# Altium footprint library MODULE_SM-K26-XCL2GI.PcbLib: 1 footprints
Each footprint in its own frame and in the unit in brackets; x right, y up, seen from the top. Pads: shape width x height; smd on the part's side, far side on the other; paste and mask are expansions set on the pad; w line width, h text height; cw(c..) or ccw(c..) is an arc to the next point about the centre after c.
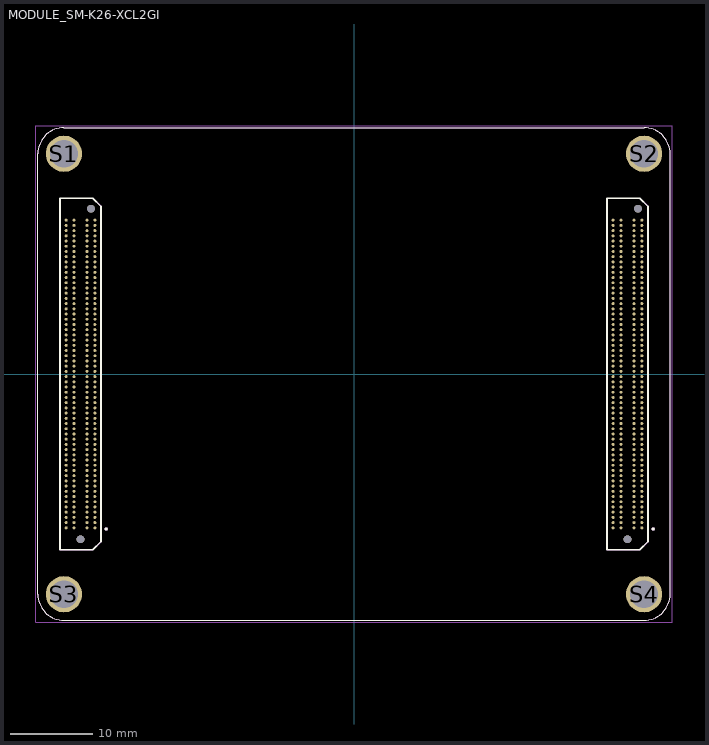
[diagram p0: the footprint, top view; thin cyan lines are the x and y axes]

## MODULE_SM-K26-XCL2GI [mil]
height 429.13
pads (488):
  round 14.02 smd: A01(-1242.36,-737.5) A02(-1242.36,-712.5) A03(-1242.36,-687.5) A04(-1242.36,-662.5) A05(-1242.36,-637.5) A06(-1242.36,-612.5) A07(-1242.36,-587.5) A08(-1242.36,-562.5) A09(-1242.36,-537.5) A10(-1242.36,-512.5) A11(-1242.36,-487.5) A12(-1242.36,-462.5) A13(-1242.36,-437.5) A14(-1242.36,-412.5) A15(-1242.36,-387.5) A16(-1242.36,-362.5) A17(-1242.36,-337.5) A18(-1242.36,-312.5) A19(-1242.36,-287.5) A20(-1242.36,-262.5) A21(-1242.36,-237.5) A22(-1242.36,-212.5) A23(-1242.36,-187.5) A24(-1242.36,-162.5) A25(-1242.36,-137.5) A26(-1242.36,-112.5) A27(-1242.36,-87.5) A28(-1242.36,-62.5) A29(-1242.36,-37.5) A30(-1242.36,-12.5) A31(-1242.36,12.5) A32(-1242.36,37.5) A33(-1242.36,62.5) A34(-1242.36,87.5) A35(-1242.36,112.5) A36(-1242.36,137.5) A37(-1242.36,162.5) A38(-1242.36,187.5) A39(-1242.36,212.5) A40(-1242.36,237.5) A41(-1242.36,262.5) A42(-1242.36,287.5) A43(-1242.36,312.5) A44(-1242.36,337.5) A45(-1242.36,362.5) A46(-1242.36,387.5) A47(-1242.36,412.5) A48(-1242.36,437.5) A49(-1242.36,462.5) A50(-1242.36,487.5) A51(-1242.36,512.5) A52(-1242.36,537.5) A53(-1242.36,562.5) A54(-1242.36,587.5) A55(-1242.36,612.5) A56(-1242.36,637.5) A57(-1242.36,662.5) A58(-1242.36,687.5) A59(-1242.36,712.5) A60(-1242.36,737.5) A101(1380.16,-737.5) A102(1380.16,-712.5) A103(1380.16,-687.5) A104(1380.16,-662.5) A105(1380.16,-637.5) A106(1380.16,-612.5) A107(1380.16,-587.5) A108(1380.16,-562.5) A109(1380.16,-537.5) A110(1380.16,-512.5) A111(1380.16,-487.5) A112(1380.16,-462.5) A113(1380.16,-437.5) A114(1380.16,-412.5) A115(1380.16,-387.5) A116(1380.16,-362.5) A117(1380.16,-337.5) A118(1380.16,-312.5) A119(1380.16,-287.5) A120(1380.16,-262.5) A121(1380.16,-237.5) A122(1380.16,-212.5) A123(1380.16,-187.5) A124(1380.16,-162.5) A125(1380.16,-137.5) A126(1380.16,-112.5) A127(1380.16,-87.5) A128(1380.16,-62.5) A129(1380.16,-37.5) A130(1380.16,-12.5) A131(1380.16,12.5) A132(1380.16,37.5) A133(1380.16,62.5) A134(1380.16,87.5) A135(1380.16,112.5) A136(1380.16,137.5) A137(1380.16,162.5) A138(1380.16,187.5) A139(1380.16,212.5) A140(1380.16,237.5) A141(1380.16,262.5) A142(1380.16,287.5) A143(1380.16,312.5) A144(1380.16,337.5) A145(1380.16,362.5) A146(1380.16,387.5) A147(1380.16,412.5) A148(1380.16,437.5) A149(1380.16,462.5) A150(1380.16,487.5) A151(1380.16,512.5) A152(1380.16,537.5) A153(1380.16,562.5) A154(1380.16,587.5) A155(1380.16,612.5) A156(1380.16,637.5) A157(1380.16,662.5) A158(1380.16,687.5) A159(1380.16,712.5) A160(1380.16,737.5) B01(-1280.16,-737.5) B02(-1280.16,-712.5) B03(-1280.16,-687.5) B04(-1280.16,-662.5) B05(-1280.16,-637.5) B06(-1280.16,-612.5) B07(-1280.16,-587.5) B08(-1280.16,-562.5) B09(-1280.16,-537.5) B10(-1280.16,-512.5) B11(-1280.16,-487.5) B12(-1280.16,-462.5) B13(-1280.16,-437.5) B14(-1280.16,-412.5) B15(-1280.16,-387.5) B16(-1280.16,-362.5) B17(-1280.16,-337.5) B18(-1280.16,-312.5) B19(-1280.16,-287.5) B20(-1280.16,-262.5) B21(-1280.16,-237.5) B22(-1280.16,-212.5) B23(-1280.16,-187.5) B24(-1280.16,-162.5) B25(-1280.16,-137.5) B26(-1280.16,-112.5) B27(-1280.16,-87.5) B28(-1280.16,-62.5) B29(-1280.16,-37.5) B30(-1280.16,-12.5) B31(-1280.16,12.5) B32(-1280.16,37.5) B33(-1280.16,62.5) B34(-1280.16,87.5) B35(-1280.16,112.5) B36(-1280.16,137.5) B37(-1280.16,162.5) B38(-1280.16,187.5) B39(-1280.16,212.5) B40(-1280.16,237.5) B41(-1280.16,262.5) B42(-1280.16,287.5) B43(-1280.16,312.5) B44(-1280.16,337.5) B45(-1280.16,362.5) B46(-1280.16,387.5) B47(-1280.16,412.5) B48(-1280.16,437.5) B49(-1280.16,462.5) B50(-1280.16,487.5) B51(-1280.16,512.5) B52(-1280.16,537.5) B53(-1280.16,562.5) B54(-1280.16,587.5) B55(-1280.16,612.5) B56(-1280.16,637.5) B57(-1280.16,662.5) B58(-1280.16,687.5) B59(-1280.16,712.5) B60(-1280.16,737.5) B101(1342.36,-737.5) B102(1342.36,-712.5) B103(1342.36,-687.5) B104(1342.36,-662.5) B105(1342.36,-637.5) B106(1342.36,-612.5) B107(1342.36,-587.5) B108(1342.36,-562.5) B109(1342.36,-537.5) B110(1342.36,-512.5) B111(1342.36,-487.5) B112(1342.36,-462.5) B113(1342.36,-437.5) B114(1342.36,-412.5) B115(1342.36,-387.5) B116(1342.36,-362.5) B117(1342.36,-337.5) B118(1342.36,-312.5) B119(1342.36,-287.5) B120(1342.36,-262.5) B121(1342.36,-237.5) B122(1342.36,-212.5) B123(1342.36,-187.5) B124(1342.36,-162.5) B125(1342.36,-137.5) B126(1342.36,-112.5) B127(1342.36,-87.5) B128(1342.36,-62.5) B129(1342.36,-37.5) B130(1342.36,-12.5) B131(1342.36,12.5) B132(1342.36,37.5) B133(1342.36,62.5) B134(1342.36,87.5) B135(1342.36,112.5) B136(1342.36,137.5) B137(1342.36,162.5) B138(1342.36,187.5) B139(1342.36,212.5) B140(1342.36,237.5) B141(1342.36,262.5) B142(1342.36,287.5) B143(1342.36,312.5) B144(1342.36,337.5) B145(1342.36,362.5) B146(1342.36,387.5) B147(1342.36,412.5) B148(1342.36,437.5) B149(1342.36,462.5) B150(1342.36,487.5) B151(1342.36,512.5) B152(1342.36,537.5) B153(1342.36,562.5) B154(1342.36,587.5) B155(1342.36,612.5) B156(1342.36,637.5) B157(1342.36,662.5) B158(1342.36,687.5) B159(1342.36,712.5) B160(1342.36,737.5) C01(-1342.36,-737.5) C02(-1342.36,-712.5) C03(-1342.36,-687.5) C04(-1342.36,-662.5) C05(-1342.36,-637.5) C06(-1342.36,-612.5) C07(-1342.36,-587.5) C08(-1342.36,-562.5) C09(-1342.36,-537.5) C10(-1342.36,-512.5) C11(-1342.36,-487.5) C12(-1342.36,-462.5) C13(-1342.36,-437.5) C14(-1342.36,-412.5) C15(-1342.36,-387.5) C16(-1342.36,-362.5) C17(-1342.36,-337.5) C18(-1342.36,-312.5) C19(-1342.36,-287.5) C20(-1342.36,-262.5) C21(-1342.36,-237.5) C22(-1342.36,-212.5) C23(-1342.36,-187.5) C24(-1342.36,-162.5) C25(-1342.36,-137.5) C26(-1342.36,-112.5) C27(-1342.36,-87.5) C28(-1342.36,-62.5) C29(-1342.36,-37.5) C30(-1342.36,-12.5) C31(-1342.36,12.5) C32(-1342.36,37.5) C33(-1342.36,62.5) C34(-1342.36,87.5) C35(-1342.36,112.5) C36(-1342.36,137.5) C37(-1342.36,162.5) C38(-1342.36,187.5) C39(-1342.36,212.5) C40(-1342.36,237.5) C41(-1342.36,262.5) C42(-1342.36,287.5) C43(-1342.36,312.5) C44(-1342.36,337.5) C45(-1342.36,362.5) C46(-1342.36,387.5) C47(-1342.36,412.5) C48(-1342.36,437.5) C49(-1342.36,462.5) C50(-1342.36,487.5) C51(-1342.36,512.5) C52(-1342.36,537.5) C53(-1342.36,562.5) C54(-1342.36,587.5) C55(-1342.36,612.5) C56(-1342.36,637.5) C57(-1342.36,662.5) C58(-1342.36,687.5) C59(-1342.36,712.5) C60(-1342.36,737.5) C101(1280.16,-737.5) C102(1280.16,-712.5) C103(1280.16,-687.5) C104(1280.16,-662.5) C105(1280.16,-637.5) C106(1280.16,-612.5) C107(1280.16,-587.5) C108(1280.16,-562.5) C109(1280.16,-537.5) C110(1280.16,-512.5) C111(1280.16,-487.5) C112(1280.16,-462.5) C113(1280.16,-437.5) C114(1280.16,-412.5) C115(1280.16,-387.5) C116(1280.16,-362.5) C117(1280.16,-337.5) C118(1280.16,-312.5) C119(1280.16,-287.5) C120(1280.16,-262.5) C121(1280.16,-237.5) C122(1280.16,-212.5) C123(1280.16,-187.5) C124(1280.16,-162.5) C125(1280.16,-137.5) C126(1280.16,-112.5) C127(1280.16,-87.5) C128(1280.16,-62.5) C129(1280.16,-37.5) C130(1280.16,-12.5) C131(1280.16,12.5) C132(1280.16,37.5) C133(1280.16,62.5) C134(1280.16,87.5) C135(1280.16,112.5) C136(1280.16,137.5) C137(1280.16,162.5) C138(1280.16,187.5) C139(1280.16,212.5) C140(1280.16,237.5) C141(1280.16,262.5) C142(1280.16,287.5) C143(1280.16,312.5) C144(1280.16,337.5) C145(1280.16,362.5) C146(1280.16,387.5) C147(1280.16,412.5) C148(1280.16,437.5) C149(1280.16,462.5) C150(1280.16,487.5) C151(1280.16,512.5) C152(1280.16,537.5) C153(1280.16,562.5) C154(1280.16,587.5) C155(1280.16,612.5) C156(1280.16,637.5) C157(1280.16,662.5) C158(1280.16,687.5) C159(1280.16,712.5) C160(1280.16,737.5) D01(-1380.16,-737.5) D02(-1380.16,-712.5) D03(-1380.16,-687.5) D04(-1380.16,-662.5) D05(-1380.16,-637.5) D06(-1380.16,-612.5) D07(-1380.16,-587.5) D08(-1380.16,-562.5) D09(-1380.16,-537.5) D10(-1380.16,-512.5) D11(-1380.16,-487.5) D12(-1380.16,-462.5) D13(-1380.16,-437.5) D14(-1380.16,-412.5) D15(-1380.16,-387.5) D16(-1380.16,-362.5) D17(-1380.16,-337.5) D18(-1380.16,-312.5) D19(-1380.16,-287.5) D20(-1380.16,-262.5) D21(-1380.16,-237.5) D22(-1380.16,-212.5) D23(-1380.16,-187.5) D24(-1380.16,-162.5) D25(-1380.16,-137.5) D26(-1380.16,-112.5) D27(-1380.16,-87.5) D28(-1380.16,-62.5) D29(-1380.16,-37.5) D30(-1380.16,-12.5) D31(-1380.16,12.5) D32(-1380.16,37.5) D33(-1380.16,62.5) D34(-1380.16,87.5) D35(-1380.16,112.5) D36(-1380.16,137.5) D37(-1380.16,162.5) D38(-1380.16,187.5) D39(-1380.16,212.5) D40(-1380.16,237.5) D41(-1380.16,262.5) D42(-1380.16,287.5) D43(-1380.16,312.5) D44(-1380.16,337.5) D45(-1380.16,362.5) D46(-1380.16,387.5) D47(-1380.16,412.5) D48(-1380.16,437.5) D49(-1380.16,462.5) D50(-1380.16,487.5) D51(-1380.16,512.5) D52(-1380.16,537.5) D53(-1380.16,562.5) D54(-1380.16,587.5) D55(-1380.16,612.5) D56(-1380.16,637.5) D57(-1380.16,662.5) D58(-1380.16,687.5) D59(-1380.16,712.5) D60(-1380.16,737.5) D101(1242.36,-737.5) D102(1242.36,-712.5) D103(1242.36,-687.5) D104(1242.36,-662.5) D105(1242.36,-637.5) D106(1242.36,-612.5) D107(1242.36,-587.5) D108(1242.36,-562.5) D109(1242.36,-537.5) D110(1242.36,-512.5) D111(1242.36,-487.5) D112(1242.36,-462.5) D113(1242.36,-437.5) D114(1242.36,-412.5) D115(1242.36,-387.5) D116(1242.36,-362.5) D117(1242.36,-337.5) D118(1242.36,-312.5) D119(1242.36,-287.5) D120(1242.36,-262.5) D121(1242.36,-237.5) D122(1242.36,-212.5) D123(1242.36,-187.5) D124(1242.36,-162.5) D125(1242.36,-137.5) D126(1242.36,-112.5) D127(1242.36,-87.5) D128(1242.36,-62.5) D129(1242.36,-37.5) D130(1242.36,-12.5) D131(1242.36,12.5) D132(1242.36,37.5) D133(1242.36,62.5) D134(1242.36,87.5) D135(1242.36,112.5) D136(1242.36,137.5) D137(1242.36,162.5) D138(1242.36,187.5) D139(1242.36,212.5) D140(1242.36,237.5) D141(1242.36,262.5) D142(1242.36,287.5) D143(1242.36,312.5) D144(1242.36,337.5) D145(1242.36,362.5) D146(1242.36,387.5) D147(1242.36,412.5) D148(1242.36,437.5) D149(1242.36,462.5) D150(1242.36,487.5) D151(1242.36,512.5) D152(1242.36,537.5) D153(1242.36,562.5) D154(1242.36,587.5) D155(1242.36,612.5) D156(1242.36,637.5) D157(1242.36,662.5) D158(1242.36,687.5) D159(1242.36,712.5) D160(1242.36,737.5)
  round 173.86 hole 133.86: S1(-1390.75,1056.1) S2(1390.75,1056.1) S3(-1390.75,-1056.1) S4(1390.75,-1056.1)
  round 37.4 hole 37.4 unplated: ""(-1311.26,-792.72) ""(-1261.26,792.72) ""(1311.26,-792.72) ""(1361.26,792.72)
Top Overlay:
  circle w7.87: c-1188.15,-743.11 r3.94
  circle w7.87: c1434.37,-743.11 r3.94
  lines w5: -1515.75,-1055.91 ccw(c-1390.55,-1055.91) -1390.55,-1181.1 1390.55,-1181.1 ccw(c1390.55,-1055.91) 1515.75,-1055.91 1515.75,1055.91 ccw(c1390.55,1055.91) 1390.55,1181.1 -1390.55,1181.1 ccw(c-1390.55,1055.91) -1515.75,1055.91 -1515.75,-1055.91
  lines w7.87: -1409.68,-842.91 -1252.2,-842.91 -1212.83,-803.54 -1212.83,803.54 -1252.2,842.91 -1409.68,842.91 -1409.68,-842.91 ; 1212.83,-842.91 1370.32,-842.91 1409.68,-803.54 1409.68,803.54 1370.32,842.91 1212.83,842.91 1212.83,-842.91
Mechanical 13:
  circle w7.87: c-1188.15,-743.11 r3.94
  circle w7.87: c1434.37,-743.11 r3.94
  lines w3.94: -1409.68,-842.91 -1409.68,842.91 -1252.2,842.91 -1212.83,803.54 -1212.83,-803.54 -1252.2,-842.91 -1409.68,-842.91 ; 1212.83,-842.91 1212.83,842.91 1370.32,842.91 1409.68,803.54 1409.68,-803.54 1370.32,-842.91 1212.83,-842.91
  lines w5: -1515.75,-1055.91 ccw(c-1390.55,-1055.91) -1390.55,-1181.1 1390.55,-1181.1 ccw(c1390.55,-1055.91) 1515.75,-1055.91 1515.75,1055.91 ccw(c1390.55,1055.91) 1390.55,1181.1 -1390.55,1181.1 ccw(c-1390.55,1055.91) -1515.75,1055.91 -1515.75,-1055.91
Mechanical 15:
  lines w1.97: -1525.59,-1190.94 -1525.59,1190.94 1525.59,1190.94 1525.59,-1190.94 -1525.59,-1190.94
3D body "step_temp.STEP": height 429.13, standoff 0, extent -1515.75,-1181.1 1515.75,1181.1